# Altium schematic symbol library IEEEBOT_SCHLIB.SchLib: 30 symbols (part 1 of 2)
Pins are listed as number, name and electrical type; pins without a type are passive.

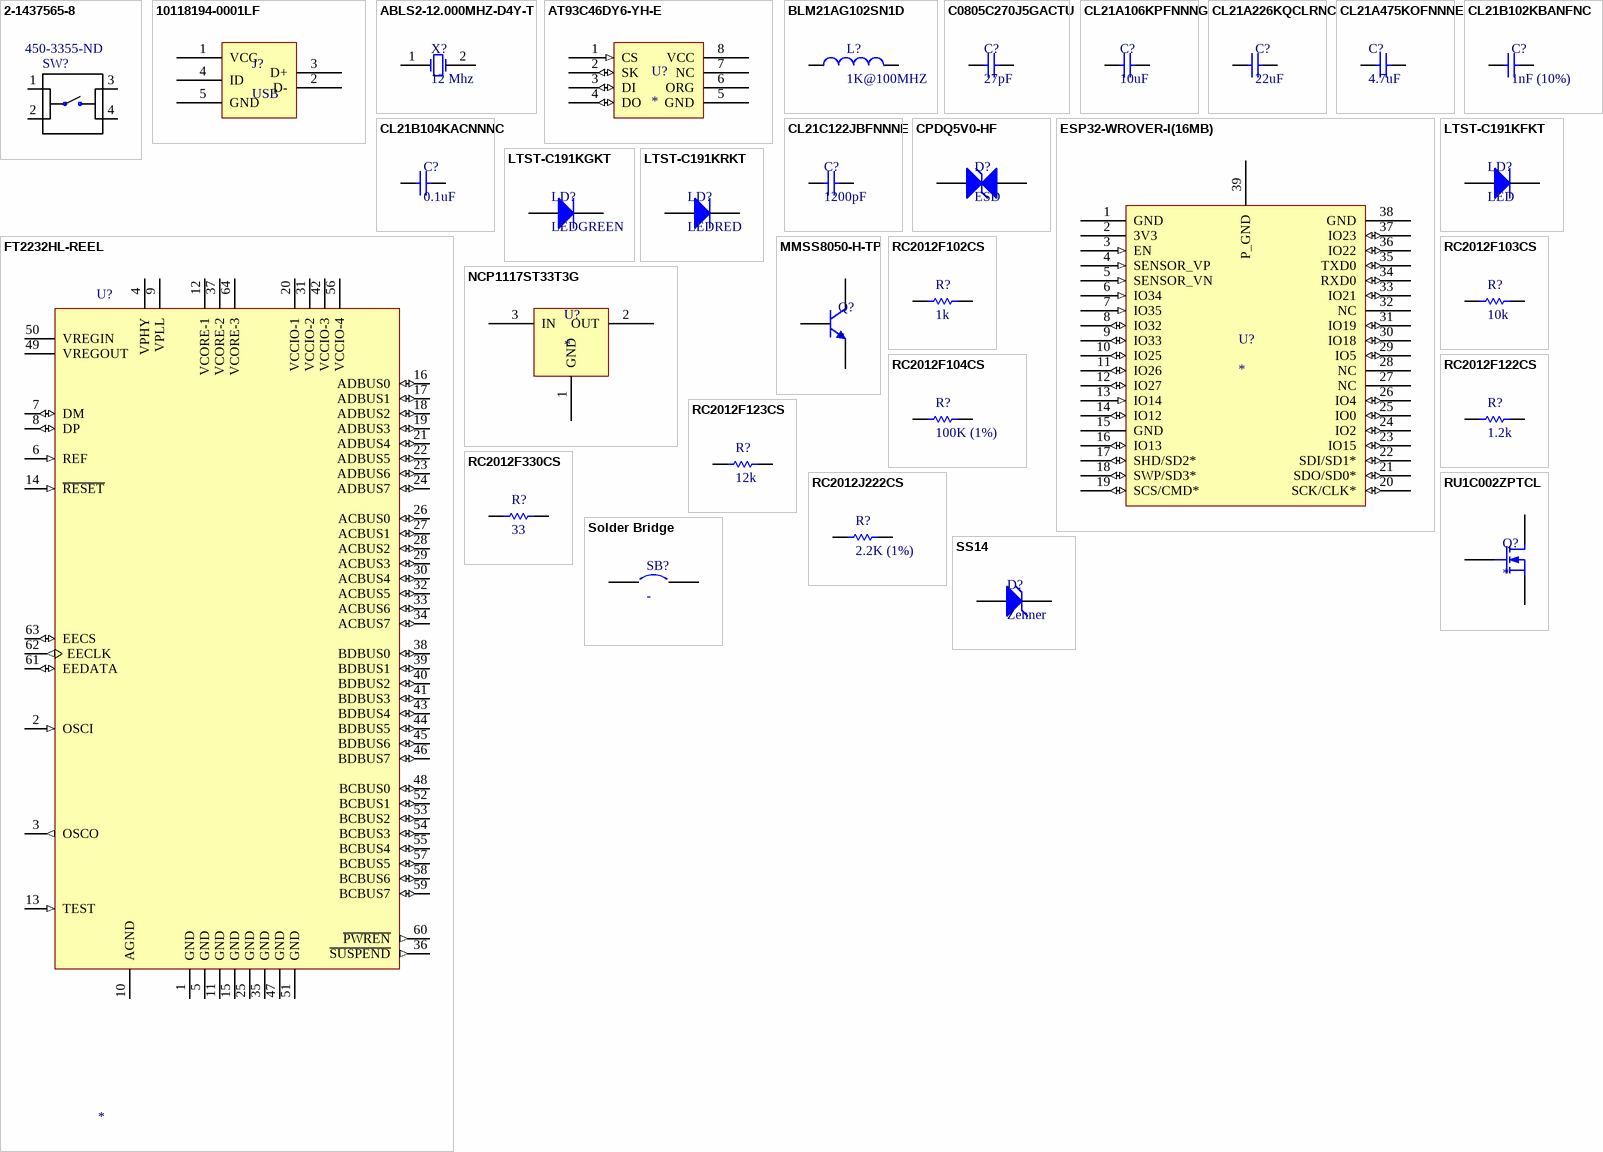
[diagram p0: symbols 2-1437565-8 to SS14]

## 2-1437565-8
designator SW?  Supplier Part Number 1: 450-3355-ND  (hidden comment: 2-1437565-8)
Switch Tactile OFF _ON_ SPST Round Button Gull Wing 0.05A 24VDC 1VA 9.18N SMD Bulk; MF: TE Connectivity; Operating Force: 260gf; Max Current Rating: 50mA; Voltage Rating (DC): 24V; Illumination Type: Non-Illuminated; Connector Type: SMD/SMT; Switch Function: Off-Mom; Actuator Type: Standard; Availability: Unavailable; Price: None; Package: None; TE_purchase_URL: https://www.te.com/usa-en/product-2-1437565-8.html?te_bu=Cor&te_type=disp&te_campaign=seda_glo_cor-seda-global-disp-prtnr-fy19-seda-model-bom-cta_sma-317_1&elqCampaignId=32493; SnapEDA_Link: https://www.snapeda.com/parts/2-1437565-8/TE%20Connectivity/view-part/?ref=snap; MP: 2-1437565-8; Value: *; Supplier 1: Digi-Key; Manufacturer: TE Connectivity; Manufacturer Part Number: 2-1437565-8; Stock 1: 18898; Pricing 1: 1 = 0,20000, 10 = 0,19500, 25 = 0,18840, 50 = 0,18160, 100 = 0,17150, 250 = 0,16140, 500 = 0,15468, 1000 = 0,11769, 5000 = 0,09751 (USD); Mount: Surface Mount; Case/Package: SMD/SMT; Contact Material: Copper Alloy; Contact Plating: Silver; Material: Polyamide; Min Operating Temperature: -20°C; Max Operating Temperature: 85°C; Throw Configuration: SPST; Packaging: Bulk; Current Rating: 50mA; Max Voltage Rating (DC): 24V; Package Quantity: 750; Termination: Gull Wing; Orientation: Straight; Length: 6mm; Height: 4.3mm; Depth: 10mm; Radiation Hardening: No; ComponentLink1URL: https://datasheet.ciiva.com/16995/0900766b80fa5b0a-16995515.pdf?src-supplier=Allied+Electronics; ComponentLink1Description: https://datasheet.ciiva.com/16995/0900766b80fa5b0a-16995515.pdf?src-supplier=Allied+Electronics; ComponentLink2URL: https://datasheet.ciiva.com/8165/eng-cs-1654270-2-0807-8165018.pdf?src-supplier=Avnet; ComponentLink2Description: https://datasheet.ciiva.com/8165/eng-cs-1654270-2-0807-8165018.pdf?src-supplier=Avnet; ComponentLink3URL: https://datasheet.ciiva.com/16535/eng-cs-1654270-2-0807-16535247.pdf?src-supplier=Avnet+Europe; ComponentLink3Description: https://datasheet.ciiva.com/16535/eng-cs-1654270-2-0807-16535247.pdf?src-supplier=Avnet+Europe; ComponentLink4URL: http://datasheet.octopart.com/FSM2JSMAA-Tyco-Electronics-datasheet-11083199.pdf?src-supplier=TE+Connectivity; ComponentLink4Description: http://datasheet.octopart.com/FSM2JSMAA-Tyco-Electronics-datasheet-11083199.pdf?src-supplier=TE+Connectivity; ComponentLink5URL: http://datasheet.octopart.com/FSM2JSMAA-Alcoswitch-datasheet-10294628.pdf?src-supplier=Allied+Electronics; ComponentLink5Description: http://datasheet.octopart.com/FSM2JSMAA-Alcoswitch-datasheet-10294628.pdf?src-supplier=Allied+Electronics; ComponentLink6URL: http://datasheet.octopart.com/FSM2JSMAA-TE-Connectivity-datasheet-62056516.pdf?src-supplier=TE+Connectivity; ComponentLink6Description: http://datasheet.octopart.com/FSM2JSMAA-TE-Connectivity-datasheet-62056516.pdf?src-supplier=TE+Connectivity; ComponentLink7URL: http://sigma.octopart.com/11868940/technical_drawing/Alcoswitch-FSM2JSMAA.pdf?src-supplier=TE+Connectivity; ComponentLink7Description: http://sigma.octopart.com/11868940/technical_drawing/Alcoswitch-FSM2JSMAA.pdf?src-supplier=TE+Connectivity; ComponentLink8URL: http://datasheet.octopart.com/2-1437565-8-Tyco-Electronics-datasheet-160371.pdf?src-supplier=Arrow; ComponentLink8Description: http://datasheet.octopart.com/2-1437565-8-Tyco-Electronics-datasheet-160371.pdf?src-supplier=Arrow
footprint *SW_SMD_2-1437565-8_4_4.50_6.00_6.00_5.00
pins: 1, 2, 3, 4

## 10118194-0001LF
designator J?, comment USB
CONN RCPT USB2.0 MICRO B SMD R/A; Manufacturer: Amphenol FCI; Manufacturer Part Number: 10118194-0001LF; Gender: Receptacle; Current Rating: 1.8A; Number of Contacts: 5; Insulation Resistance: 1GR; Number of Ports: 1; Max Voltage Rating (AC): 100V; Pitch: 0.65mm; Supplier 1: Digi-Key; RoHS: Yes; Stock 1: 136800; Pricing 1: 1200 = 0,208430, 2400 = 0,190560, 6000 = 0,178650, 8400 = 0,166740, 12000 = 0,160790, 30000 = 0,158400, 60000 = 0,154830 (USD); Mount: Surface Mount; Color: Black; Contact Material: Copper Alloy; Contact Plating: Gold; Number of Terminals: 5; Housing Material: Polymer; Min Operating Temperature: -55°C; Max Operating Temperature: 85°C; Package Quantity: 9600; Packaging: Tape and Reel; Connector Type: USB; Termination: Solder; Orientation: Right Angle; Features: Shielded; Length: 8.05mm; Depth: 5mm; Radiation Hardening: No; Lead Free: Lead Free; Flammability Rating: UL94 V-0; ComponentLink1URL: https://datasheet.ciiva.com/4598/10118194ac-197217-4598807.pdf?src-supplier=Mouser; ComponentLink1Description: https://datasheet.ciiva.com/4598/10118194ac-197217-4598807.pdf?src-supplier=Mouser; ComponentLink2URL: https://datasheet.ciiva.com/29907/10118194-29907230.pdf?src-supplier=Avnet; ComponentLink2Description: https://datasheet.ciiva.com/29907/10118194-29907230.pdf?src-supplier=Avnet; ComponentLink3URL: https://datasheet.ciiva.com/26945/getdatasheetpartid-418619-26945695.pdf?src-supplier=Verical; ComponentLink3Description: https://datasheet.ciiva.com/26945/getdatasheetpartid-418619-26945695.pdf?src-supplier=Verical; ComponentLink4URL: https://datasheet.ciiva.com/851/10118194-851110.pdf?src-supplier=Digi-Key; ComponentLink4Description: https://datasheet.ciiva.com/851/10118194-851110.pdf?src-supplier=Digi-Key; ComponentLink5URL: https://datasheet.ciiva.com/851/10118194-851111.pdf?src-supplier=Digi-Key; ComponentLink5Description: https://datasheet.ciiva.com/851/10118194-851111.pdf?src-supplier=Digi-Key; Supplier Part Number 1: 609-4618-2-ND
footprint 10118194-0001LF
pins: 1 VCC, 2 D-, 3 D+, 4 ID, 5 GND

## ABLS2-12.000MHZ-D4Y-T
designator X?, comment 12 Mhz
CRYSTAL 12.0000MHZ 18PF SMD; Manufacturer: Abracon; Manufacturer Part Number: ABLS2-12.000MHZ-D4Y-T; ESR (Equivalent Series Resistance): 50R; Frequency: 12MHz; Tolerance: 30ppm; Supplier 1: Digi-Key; RoHS: Yes; Stock 1: 32280; Pricing 1: 1 = 0,33000, 10 = 0,27500, 50 = 0,24760, 100 = 0,22000, 500 = 0,20900 (USD); Mount: Surface Mount; Number of Pins: 2; Min Operating Temperature: -40°C; Max Operating Temperature: 85°C; Load Capacitance: 18pF; Package Quantity: 1000; Packaging: Tape and Reel; Frequency Tolerance: 30ppm; Frequency Stability: 30ppm; Termination: SMD/SMT; Series Resistance: 50R; Length: 11.4mm; Height: 0.13inch; Width: 4.7mm; Depth: 4.7mm; REACH SVHC: Unknown; Lead Free: Lead Free; ComponentLink1URL: https://datasheet.ciiva.com/15116/getdatasheetpartid-719896-15116779.pdf?src-supplier=Verical; ComponentLink1Description: https://datasheet.ciiva.com/15116/getdatasheetpartid-719896-15116779.pdf?src-supplier=Verical; ComponentLink2URL: https://datasheet.ciiva.com/16208/abls2-16208630.pdf?src-supplier=Future+Electronics; ComponentLink2Description: https://datasheet.ciiva.com/16208/abls2-16208630.pdf?src-supplier=Future+Electronics; ComponentLink3URL: https://datasheet.ciiva.com/854/abls2-854393.pdf?src-supplier=Digi-Key; ComponentLink3Description: https://datasheet.ciiva.com/854/abls2-854393.pdf?src-supplier=Digi-Key; ComponentLink4URL: https://datasheet.ciiva.com/854/abls2-854394.pdf?src-supplier=Digi-Key; ComponentLink4Description: https://datasheet.ciiva.com/854/abls2-854394.pdf?src-supplier=Digi-Key; ComponentLink5URL: https://datasheet.ciiva.com/3175/abls2-3175498.pdf?src-supplier=Avnet; ComponentLink5Description: https://datasheet.ciiva.com/3175/abls2-3175498.pdf?src-supplier=Avnet; ComponentLink6URL: https://datasheet.ciiva.com/854/abls2-854395.pdf?src-supplier=Digi-Key; ComponentLink6Description: https://datasheet.ciiva.com/854/abls2-854395.pdf?src-supplier=Digi-Key; ComponentLink7URL: https://datasheet.ciiva.com/7998/abls2-7998445.pdf?src-supplier=Element14; ComponentLink7Description: https://datasheet.ciiva.com/7998/abls2-7998445.pdf?src-supplier=Element14; Supplier Part Number 1: 535-9869-1-ND
footprint ABLS2-12.000MHZ-D4Y-T
pins: 1 OSC1, 2 OSC2

## AT93C46DY6-YH-E
designator U?
EEPROM Serial-3Wire 1K-bit 128 x 8/64 x 16 2.5V/3.3V/5V Automotive 8-Pin UDFN EP T/R; Manufacturer: Microchip; Manufacturer Part Number: AT93C46DY6-YH-E; Supplier 1: Digikey; Stock 1: 27382; Pricing 1: 1 = 0,23000, 25 = 0,21640, 100 = 0,21190 (USD); Supplier Part Number 1: AT93C46DY6-YH-ECT-ND
pins: 1 CS (in), 2 SK (io), 3 DI (io), 4 DO (io), 5 GND (power), 6 ORG, 7 NC, 8 VCC (power)

## BLM21AG102SN1D
designator L?, comment 1K@100MHZ
MURATA - BLM21AG102SN1D - FERRITE BEAD, 1 KOHM, 500 mA, 0805; Material: Steel; Impedance: 1kR; Tolerance: 25%; Max DC Current: 200mA; DC Resistance (DCR): 280mR; Max Current Rating: 600mA; Current Rating: 500mA; Test Frequency: 100MHz; Number of Lines: 1; Shielding: Unshielded; Supplier 1: Digi-Key; Manufacturer: Murata; Manufacturer Part Number: BLM21AG102SN1D; RoHS: Yes; Stock 1: 2326407; Pricing 1: 1 = 0,17000, 10 = 0,14100, 25 = 0,10960, 50 = 0,09100, 100 = 0,07840, 250 = 0,06272, 500 = 0,05644, 1000 = 0,04703 (USD); Case/Package: 0805; Number of Pins: 2; Weight: 0.000194oz; Core Material: Ferrite; Case Code (Metric): 2012; Case Code (Imperial): 0805; Min Operating Temperature: -55°C; Max Operating Temperature: 125°C; Package Quantity: 1; Packaging: Tape and Reel; Termination: SMD/SMT; DC Current: 200mA; Military Standard: Not; Frequency: 100MHz; Number of Circuits: 1; Length: 2mm; Height: 0.85mm; Depth: 1.25mm; Width: 1.25mm; Radiation Hardening: No; REACH SVHC: No SVHC; Lead Free: Lead Free; ComponentLink1URL: https://datasheet.ciiva.com/19454/1845136-19454717.pdf?src-supplier=Jameco; ComponentLink1Description: https://datasheet.ciiva.com/19454/1845136-19454717.pdf?src-supplier=Jameco; ComponentLink2URL: https://datasheet.ciiva.com/18093/getdatasheetpartid-139643-18093010.pdf?src-supplier=Verical; ComponentLink2Description: https://datasheet.ciiva.com/18093/getdatasheetpartid-139643-18093010.pdf?src-supplier=Verical; ComponentLink3URL: https://datasheet.ciiva.com/41449/001172322-da-01-en-drossel-0805-1000r-2-0x1-25mm-4000st-41449636.pdf?src-supplier=Conrad; ComponentLink3Description: https://datasheet.ciiva.com/41449/001172322-da-01-en-drossel-0805-1000r-2-0x1-25mm-4000st-41449636.pdf?src-supplier=Conrad; ComponentLink4URL: https://datasheet.ciiva.com/29347/442432-da-01-en-chip-drossel-0805-1000r-200ma-2-0x1-25mm-29347996.pdf?src-supplier=Conrad; ComponentLink4Description: https://datasheet.ciiva.com/29347/442432-da-01-en-chip-drossel-0805-1000r-200ma-2-0x1-25mm-29347996.pdf?src-supplier=Conrad; ComponentLink5URL: https://datasheet.ciiva.com/25903/l0110s0100blm21a-25903493.pdf?src-supplier=Avnet+Europe; ComponentLink5Description: https://datasheet.ciiva.com/25903/l0110s0100blm21a-25903493.pdf?src-supplier=Avnet+Europe; ComponentLink6URL: https://datasheet.ciiva.com/3081/l0110s0100blm21a-3081640.pdf?src-supplier=Avnet; ComponentLink6Description: https://datasheet.ciiva.com/3081/l0110s0100blm21a-3081640.pdf?src-supplier=Avnet; ComponentLink7URL: https://datasheet.ciiva.com/3082/l0110s0100blm21a-3082728.pdf?src-supplier=Avnet; ComponentLink7Description: https://datasheet.ciiva.com/3082/l0110s0100blm21a-3082728.pdf?src-supplier=Avnet; ComponentLink8URL: https://datasheet.ciiva.com/6212/l0110s0100blm21a-6212345.pdf?src-supplier=Digi-Key; ComponentLink8Description: https://datasheet.ciiva.com/6212/l0110s0100blm21a-6212345.pdf?src-supplier=Digi-Key; ComponentLink9URL: https://datasheet.ciiva.com/6212/l0110s0100blm21a-6212347.pdf?src-supplier=Digi-Key; ComponentLink9Description: https://datasheet.ciiva.com/6212/l0110s0100blm21a-6212347.pdf?src-supplier=Digi-Key; ComponentLink10URL: https://datasheet.ciiva.com/8021/l0110s0100blm21a-8021548.pdf?src-supplier=Element14; ComponentLink10Description: https://datasheet.ciiva.com/8021/l0110s0100blm21a-8021548.pdf?src-supplier=Element14; ComponentLink11URL: https://datasheet.ciiva.com/16286/l0110s0100blm21a-16286461.pdf?src-supplier=Future+Electronics; ComponentLink11Description: https://datasheet.ciiva.com/16286/l0110s0100blm21a-16286461.pdf?src-supplier=Future+Electronics; ComponentLink12URL: https://datasheet.ciiva.com/6212/l0110s0100blm21a-6212318.pdf?src-supplier=Digi-Key; ComponentLink12Description: https://datasheet.ciiva.com/6212/l0110s0100blm21a-6212318.pdf?src-supplier=Digi-Key; ComponentLink13URL: https://datasheet.ciiva.com/8021/l0110s0100blm21a-8021550.pdf?src-supplier=Element14; ComponentLink13Description: https://datasheet.ciiva.com/8021/l0110s0100blm21a-8021550.pdf?src-supplier=Element14; Supplier Part Number 1: 490-1041-1-ND; ComponentLink14URL: http://www.farnell.com/datasheets/2609223.pdf?src-supplier=Farnell; ComponentLink14Description: http://www.farnell.com/datasheets/2609223.pdf?src-supplier=Farnell; ComponentLink15URL: https://www.te.com/commerce/DocumentDelivery/DDEController?Action=srchrtrv&DocNm=1773204-3&DocType=DS&DocLang=English&src-supplier=Digi-Key; ComponentLink15Description: https://www.te.com/commerce/DocumentDelivery/DDEController?Action=srchrtrv&DocNm=1773204-3&DocType=DS&DocLang=English&src-supplier=Digi-Key
pins: 1, 2

## C0805C270J5GACTU
designator C?, comment 27pF
Cap Ceramic 27pF 50V C0G 5% Pad SMD 0805 125C T/R; Manufacturer: KEMET; Manufacturer Part Number: C0805C270J5GACTU; Temperature Coefficient: 30ppm/°C; Dissipation Factor: 0.1%; Supplier 1: Digi-Key; RoHS: Yes; Stock 1: 57011; Pricing 1: 1 = 0,13000, 10 = 0,09600, 100 = 0,04260, 500 = 0,03046, 1000 = 0,02393 (USD); Mount: Surface Mount; Case/Package: 0805; Dielectric Material: Ceramic; Case Code (Metric): 2012; Case Code (Imperial): 0805; Contact Material: Tin; Contact Plating: Tin; Min Operating Temperature: -55°C; Max Operating Temperature: 125°C; Packaging: Tape and Reel; Capacitance: 27pF; Tolerance: 5%; Voltage Rating (DC): 50V; Dielectric: C0G; Termination: SMD/SMT; Voltage: 50V; Package Quantity: 1; Voltage Rating: 50V; Length: 2mm; Height: 0.78mm; Depth: 1.25mm; Width: 0.049inch; Thickness: 0.035inch; Lead Pitch: 0.75mm; Radiation Hardening: No; Lead Free: Lead Free; REACH SVHC: No SVHC; ComponentLink1URL: https://datasheet.ciiva.com/6136/1776096-6136764.pdf?src-supplier=Farnell; ComponentLink1Description: https://datasheet.ciiva.com/6136/1776096-6136764.pdf?src-supplier=Farnell; ComponentLink2URL: https://datasheet.ciiva.com/5411/kem-c1003-c0g-smd-356956-5411093.pdf?src-supplier=Mouser; ComponentLink2Description: https://datasheet.ciiva.com/5411/kem-c1003-c0g-smd-356956-5411093.pdf?src-supplier=Mouser; ComponentLink3URL: https://datasheet.ciiva.com/11463/kem-c1003-c0g-smd-11463574.pdf?src-supplier=Avnet; ComponentLink3Description: https://datasheet.ciiva.com/11463/kem-c1003-c0g-smd-11463574.pdf?src-supplier=Avnet; ComponentLink4URL: https://datasheet.ciiva.com/14589/70095383-14589446.pdf?src-supplier=Allied+Electronics; ComponentLink4Description: https://datasheet.ciiva.com/14589/70095383-14589446.pdf?src-supplier=Allied+Electronics; ComponentLink5URL: https://datasheet.ciiva.com/7842/f9080b-0402-series-c0g-7842586.pdf?src-supplier=Element14; ComponentLink5Description: https://datasheet.ciiva.com/7842/f9080b-0402-series-c0g-7842586.pdf?src-supplier=Element14; ComponentLink6URL: https://datasheet.ciiva.com/28696/1789732-28696026.pdf?src-supplier=Element14; ComponentLink6Description: https://datasheet.ciiva.com/28696/1789732-28696026.pdf?src-supplier=Element14; ComponentLink7URL: https://datasheet.ciiva.com/14608/70095383-14608091.pdf?src-supplier=Allied+Electronics; ComponentLink7Description: https://datasheet.ciiva.com/14608/70095383-14608091.pdf?src-supplier=Allied+Electronics; ComponentLink8URL: https://datasheet.ciiva.com/7842/1776096-7842300.pdf?src-supplier=Element14; ComponentLink8Description: https://datasheet.ciiva.com/7842/1776096-7842300.pdf?src-supplier=Element14; ComponentLink9URL: https://datasheet.ciiva.com/7842/1776096-7842301.pdf?src-supplier=Element14; ComponentLink9Description: https://datasheet.ciiva.com/7842/1776096-7842301.pdf?src-supplier=Element14; Supplier Part Number 1: 399-1114-1-ND
pins: 1, 2

## CL21A106KPFNNNG
designator C?, comment 10uF
Cap Ceramic 10uF 10V X5R 10% SMD 0805 85C Embossed T/R; Manufacturer: Samsung; Manufacturer Part Number: CL21A106KPFNNNG; Supplier 1: Digi-Key; RoHS: Yes; Stock 1: 918320; Pricing 1: 1 = 0,14000, 10 = 0,10000, 100 = 0,04690, 500 = 0,03290, 1000 = 0,02724 (USD); Mount: Surface Mount; Case/Package: 0805; Case Code (Metric): 2012; Case Code (Imperial): 0805; Min Operating Temperature: -55°C; Max Operating Temperature: 85°C; Capacitance: 10uF; Tolerance: 10%; Dielectric: X5R; Voltage: 10V; Voltage Rating: 10V; Packaging: Tape and Reel; Package Quantity: 3000; Termination: Wraparound; Length: 2mm; Height: 1.25mm; Depth: 1.25mm; Width: 0.049inch; Thickness: 0.053inch; Radiation Hardening: No; Lead Free: Lead Free; ComponentLink1URL: https://datasheet.ciiva.com/16428/cl21a106kpfnnng-16428896.pdf?src-supplier=Future+Electronics; ComponentLink1Description: https://datasheet.ciiva.com/16428/cl21a106kpfnnng-16428896.pdf?src-supplier=Future+Electronics; ComponentLink2URL: https://datasheet.ciiva.com/26936/getdatasheetpartid-640497-26936900.pdf?src-supplier=Verical; ComponentLink2Description: https://datasheet.ciiva.com/26936/getdatasheetpartid-640497-26936900.pdf?src-supplier=Verical; Supplier Part Number 1: 1276-6456-1-ND
pins: 1, 2

## CL21A226KQCLRNC
designator C?, comment 22uF
CAP CER 22UF 6.3V X5R 0805; Manufacturer: Samsung; Manufacturer Part Number: CL21A226KQCLRNC; Tolerance: 10%; Supplier 1: Digi-Key; Stock 1: 975518; RoHS: Yes; Mount: Surface Mount; Case/Package: 0805; Case Code (Metric): 2012; Case Code (Imperial): 0805; Min Operating Temperature: -55°C; Max Operating Temperature: 85°C; Packaging: Tape and Reel; Capacitance: 22uF; Voltage Rating: 6.3V; Length: 0.079inch; Width: 0.049inch; Thickness: 0.037inch; ComponentLink1URL: http://www.samsungsem.com/kr/support/product-search/mlcc/CL21A226KQCLRNC.jsp?src-supplier=Digi-Key; ComponentLink1Description: http://www.samsungsem.com/kr/support/product-search/mlcc/CL21A226KQCLRNC.jsp?src-supplier=Digi-Key; Supplier Part Number 1: 1276-6687-1-ND
pins: 1, 2

## CL21A475KOFNNNE
designator C?, comment 4.7uF
Cap Ceramic 4.7uF 16V X5R 10% SMD 0805 85C Embossed T/R; Manufacturer: Samsung; Manufacturer Part Number: CL21A475KOFNNNE; Supplier 1: Digi-Key; RoHS: Yes; Stock 1: 1779241; Pricing 1: 1 = 0,17000, 10 = 0,11600, 100 = 0,05860, 500 = 0,04010, 1000 = 0,03547 (USD); Mount: Surface Mount; Case/Package: 0805; Case Code (Metric): 2012; Case Code (Imperial): 0805; Contact Plating: Tin; Min Operating Temperature: -55°C; Max Operating Temperature: 85°C; Tolerance: 10%; Capacitance: 4.7uF; Dielectric: X5R; Packaging: Tape and Reel; Voltage Rating: 16V; Length: 2mm; Height: 1.25mm; Width: 0.049inch; Thickness: 0.053inch; Depth: 1.25mm; Radiation Hardening: No; ComponentLink1URL: https://datasheet.ciiva.com/26838/getdatasheetpartid-357424-26838625.pdf?src-supplier=Verical; ComponentLink1Description: https://datasheet.ciiva.com/26838/getdatasheetpartid-357424-26838625.pdf?src-supplier=Verical; ComponentLink2URL: https://datasheet.ciiva.com/25710/cl21a475kofnnne-25710354.pdf?src-supplier=Digi-Key; ComponentLink2Description: https://datasheet.ciiva.com/25710/cl21a475kofnnne-25710354.pdf?src-supplier=Digi-Key; ComponentLink3URL: https://datasheet.ciiva.com/16740/cl21a475kofnnne-16740646.pdf?src-supplier=Future+Electronics; ComponentLink3Description: https://datasheet.ciiva.com/16740/cl21a475kofnnne-16740646.pdf?src-supplier=Future+Electronics; Supplier Part Number 1: 1276-1065-1-ND
pins: 1, 2

## CL21B102KBANFNC
designator C?, comment 1nF (10%)
Cap Ceramic 0.001uF 50V X7R 10% SMD 0805 125°C Paper T/R; Manufacturer: Samsung; Manufacturer Part Number: CL21B102KBANFNC; Supplier 1: Digi-Key; Stock 1: 199889; Pricing 1: 1 = 0,10000, 10 = 0,05000, 100 = 0,02210, 500 = 0,01576, 1000 = 0,01238 (USD); Mount: Surface Mount; Case/Package: 0805; Case Code (Metric): 2012; Case Code (Imperial): 0805; Contact Plating: Tin; Min Operating Temperature: -55°C; Max Operating Temperature: 125°C; Capacitance: 1nF; Tolerance: 10%; Package Quantity: 1; Packaging: Tape and Reel; Voltage Rating: 50V; Dielectric: X7R; Length: 0.079inch; Height: 0.65mm; Width: 0.049inch; Thickness: 0.03inch; Depth: 1.25mm; Radiation Hardening: No; ComponentLink1URL: https://datasheet.ciiva.com/25780/cl21b102kbanfnc-25780808.pdf?src-supplier=Digi-Key; ComponentLink1Description: https://datasheet.ciiva.com/25780/cl21b102kbanfnc-25780808.pdf?src-supplier=Digi-Key; Supplier Part Number 1: 1276-2424-1-ND
pins: 1, 2

## CL21B104KACNNNC
designator C?, comment 0.1uF
Cap Ceramic 0.1uF 25V X7R 10% SMD 0805 125C Paper T/R; Manufacturer: Samsung; Manufacturer Part Number: CL21B104KACNNNC; Capacitance: 100nF; Supplier 1: Digi-Key; Stock 1: 319136; RoHS: Yes; Mount: Surface Mount; Case/Package: 0805; Contact Plating: Tin; Case Code (Metric): 2012; Case Code (Imperial): 0805; Min Operating Temperature: -55°C; Max Operating Temperature: 125°C; Package Quantity: 1; Packaging: Tape and Reel; Voltage Rating: 25V; Tolerance: 10%; Dielectric: X7R; Voltage: 25V; Length: 2mm; Height: 0.85mm; Width: 0.049inch; Thickness: 0.037inch; Depth: 1.25mm; Radiation Hardening: No; ComponentLink1URL: https://datasheet.ciiva.com/25801/cl21b104kacnnnc-25801824.pdf?src-supplier=Digi-Key; ComponentLink1Description: https://datasheet.ciiva.com/25801/cl21b104kacnnnc-25801824.pdf?src-supplier=Digi-Key; ComponentLink2URL: https://datasheet.ciiva.com/15216/getdatasheetpartid-355204-15216236.pdf?src-supplier=Verical; ComponentLink2Description: https://datasheet.ciiva.com/15216/getdatasheetpartid-355204-15216236.pdf?src-supplier=Verical; Supplier Part Number 1: 1276-1099-1-ND
pins: 1, 2

## CL21C122JBFNNNE
designator C?, comment 1200pF
CAP CER 1200PF 50V C0G/NP0 0805; Manufacturer: Samsung; Manufacturer Part Number: CL21C122JBFNNNE; Capacitance: 1.2nF; Tolerance: 5%; Supplier 1: Digi-Key; RoHS: Yes; Stock 1: 528437; Pricing 1: 1 = 0,12000, 10 = 0,08800, 100 = 0,04130, 500 = 0,02898, 1000 = 0,02399 (USD); Mount: Surface Mount; Case/Package: 0805; Case Code (Metric): 2012; Case Code (Imperial): 0805; Min Operating Temperature: -55°C; Max Operating Temperature: 125°C; Package Quantity: 1; Packaging: Cut Tape; Voltage Rating: 50V; Voltage Rating (DC): 50V; Length: 0.079inch; Width: 0.049inch; Thickness: 0.053inch; Lead Free: Lead Free; ComponentLink1URL: https://datasheet.ciiva.com/25731/cl21c122jbfnnne-25731890.pdf?src-supplier=Digi-Key; ComponentLink1Description: https://datasheet.ciiva.com/25731/cl21c122jbfnnne-25731890.pdf?src-supplier=Digi-Key; Supplier Part Number 1: 1276-2986-1-ND
pins: 1, 2

## CPDQ5V0-HF
designator D?, comment ESD
TVS DIODE 5V 18.6V 0402/SOD923F; Manufacturer: Comchip; Manufacturer Part Number: CPDQ5V0-HF; Min Breakdown Voltage: 5.6V; Peak Pulse Power: 174W; Power Line Protection: No; Peak Pulse Current: 9.4A; Capacitance: 15pF; Number of Bidirectional Channels: 1; Supplier 1: Digi-Key; RoHS: Yes; Stock 1: 208826; Pricing 1: 1 = 0,30000, 10 = 0,27600, 25 = 0,19840, 100 = 0,15440, 250 = 0,09704, 500 = 0,08268, 1000 = 0,05623, 2500 = 0,05072 (USD); Mount: Surface Mount; Case/Package: 0402; Min Operating Temperature: -40°C; Max Operating Temperature: 125°C; Packaging: Tape and Reel; Package Quantity: 8000; Reverse Standoff Voltage: 5V; Clamping Voltage: 18.6V; Breakdown Voltage: 5.6V; Composition: Zener; Operating Supply Voltage: 5V; ComponentLink1URL: https://datasheet.ciiva.com/6577/cpdq5v0-hf20reva825126-6577872.pdf?src-supplier=Digi-Key; ComponentLink1Description: https://datasheet.ciiva.com/6577/cpdq5v0-hf20reva825126-6577872.pdf?src-supplier=Digi-Key; ComponentLink2URL: https://datasheet.ciiva.com/12545/cpdq5v0-hf20reva825126-218795-12545530.pdf?src-supplier=Mouser; ComponentLink2Description: https://datasheet.ciiva.com/12545/cpdq5v0-hf20reva825126-218795-12545530.pdf?src-supplier=Mouser; Supplier Part Number 1: 641-1478-1-ND
pins: 1 A, 2 K

## ESP32-WROVER-I(16MB)
designator U?
WIFI MODULE 128MBITS SPI FLASH; Manufacturer: Espressif Systems; Manufacturer Part Number: ESP32-WROVER-I(16MB); Revised: False; Supplier 1: Digi-Key; Stock 1: 5577; RoHS: No; ComponentLink1URL: https://www.espressif.com/sites/default/files/documentation/esp32-wrover_datasheet_en.pdf?src-supplier=Digi-Key; ComponentLink1Description: https://www.espressif.com/sites/default/files/documentation/esp32-wrover_datasheet_en.pdf?src-supplier=Digi-Key; ComponentLink2URL: https://www.espressif.com/sites/default/files/documentation/esp32_datasheet_en.pdf?src-supplier=Digi-Key; ComponentLink2Description: https://www.espressif.com/sites/default/files/documentation/esp32_datasheet_en.pdf?src-supplier=Digi-Key; Supplier Part Number 1: 1904-1017-1-ND
pins: 1 GND (power), 2 3V3 (power), 3 EN (in), 4 SENSOR_VP (in), 5 SENSOR_VN (in), 6 IO34 (in), 7 IO35 (in), 8 IO32 (io), 9 IO33 (io), 10 IO25 (io), 11 IO26 (io), 12 IO27 (io), 13 IO14 (in), 14 IO12 (io), 15 GND (power), 16 IO13 (io), 17 SHD/SD2* (io), 18 SWP/SD3* (io), 19 SCS/CMD* (io), 20 SCK/CLK* (io), 21 SDO/SD0* (io), 22 SDI/SD1* (io), 23 IO15 (io), 24 IO2 (io), 25 IO0 (io), 26 IO4 (io), 27 NC, 28 NC, 29 IO5 (io), 30 IO18 (io), 31 IO19 (io), 32 NC, 33 IO21 (io), 34 RXD0 (io), 35 TXD0 (io), 36 IO22 (io), 37 IO23 (io), 38 GND (power), 39 P_GND (power) "Ground Pad"

## FT2232HL-REEL
designator U?
Dual High Speed USB UART/FIFO IC LQFP64; Manufacturer Part Number: FT2232HL-REEL; MP: FT2232HL; MF: FTDI; Data Rate: 480Mbps; Max Supply Voltage: 3.63V; Min Supply Voltage: 1.62V; Number of Channels: 2; Operating Supply Voltage: 3.3V; Operating Supply Current: 70mA; Number of Transceivers: 4; ESD Protection: Yes; Package: LQFP-64 FTDI; SnapEDA_Link: https://www.snapeda.com/parts/FT2232HL/FTDI/view-part/?ref=snap; Availability: Unavailable; Price: None; Value: *; Supplier 1: Digi-Key; Manufacturer: FTDI; RoHS: Yes; Stock 1: 34676; Pricing 1: 1 = 6,71000, 10 = 6,20000, 50 = 5,77000, 100 = 5,40000, 250 = 4,56000, 500 = 4,06002 (USD); Mount: Surface Mount; Case/Package: LQFP; Number of Pins: 64; Weight: 0.012088oz; Min Operating Temperature: -40°C; Max Operating Temperature: 85°C; Packaging: Tape and Reel; Package Quantity: 1000; Dual Supply Voltage: 3.3V; Features: I²C; Length: 10.1mm; Height: 1.4mm; Width: 10.1mm; Radiation Hardening: No; Lead Free: Lead Free; ComponentLink1URL: https://datasheet.ciiva.com/26841/ft2232hl-reel-26841742.pdf?src-supplier=IIIC; ComponentLink1Description: https://datasheet.ciiva.com/26841/ft2232hl-reel-26841742.pdf?src-supplier=IIIC; ComponentLink2URL: https://datasheet.ciiva.com/1787/ds-ft2232h-1787542.pdf?src-supplier=Digi-Key; ComponentLink2Description: https://datasheet.ciiva.com/1787/ds-ft2232h-1787542.pdf?src-supplier=Digi-Key; ComponentLink3URL: https://datasheet.ciiva.com/1787/ds-ft2232h-1787543.pdf?src-supplier=Digi-Key; ComponentLink3Description: https://datasheet.ciiva.com/1787/ds-ft2232h-1787543.pdf?src-supplier=Digi-Key; ComponentLink4URL: https://datasheet.ciiva.com/1787/ds-ft2232h-1787544.pdf?src-supplier=Digi-Key; ComponentLink4Description: https://datasheet.ciiva.com/1787/ds-ft2232h-1787544.pdf?src-supplier=Digi-Key; ComponentLink5URL: https://datasheet.ciiva.com/15224/getdatasheetpartid-644710-15224922.pdf?src-supplier=Verical; ComponentLink5Description: https://datasheet.ciiva.com/15224/getdatasheetpartid-644710-15224922.pdf?src-supplier=Verical; ComponentLink6URL: https://datasheet.ciiva.com/4787/ds-ft2232h-17353-4787707.pdf?src-supplier=Mouser; ComponentLink6Description: https://datasheet.ciiva.com/4787/ds-ft2232h-17353-4787707.pdf?src-supplier=Mouser; Supplier Part Number 1: 768-1024-1-ND
footprint *QFP50P1200X1200X160-64N
pins: 1 GND (power), 2 OSCI (in), 3 OSCO (out), 4 VPHY (power), 5 GND (power), 6 REF (in), 7 DM (io), 8 DP (io), 9 VPLL (power), 10 AGND (power), 11 GND (power), 12 VCORE-1 (power), 13 TEST (in), 14 ~{RESET} (in), 15 GND (power), 16 ADBUS0 (io), 17 ADBUS1 (io), 18 ADBUS2 (io), 19 ADBUS3 (io), 20 VCCIO-1 (power), 21 ADBUS4 (io), 22 ADBUS5 (io), 23 ADBUS6 (io), 24 ADBUS7 (io), 25 GND (power), 26 ACBUS0 (io), 27 ACBUS1 (io), 28 ACBUS2 (io), 29 ACBUS3 (io), 30 ACBUS4 (io), 31 VCCIO-2 (power), 32 ACBUS5 (io), 33 ACBUS6 (io), 34 ACBUS7 (io), 35 GND (power), 36 ~{SUSPEND} (out), 37 VCORE-2 (power), 38 BDBUS0 (io), 39 BDBUS1 (io), 40 BDBUS2 (io), 41 BDBUS3 (io), 42 VCCIO-3 (power), 43 BDBUS4 (io), 44 BDBUS5 (io), 45 BDBUS6 (io), 46 BDBUS7 (io), 47 GND (power), 48 BCBUS0 (io), 49 VREGOUT (power), 50 VREGIN (power), 51 GND (power), 52 BCBUS1 (io), 53 BCBUS2 (io), 54 BCBUS3 (io), 55 BCBUS4 (io), 56 VCCIO-4 (power), 57 BCBUS5 (io), 58 BCBUS6 (io), 59 BCBUS7 (io), 60 ~{PWREN} (out), 61 EEDATA (io), 62 EECLK (out), 63 EECS (io), 64 VCORE-3 (power)

## LTST-C191KFKT
designator LD?, comment LED
LED ORANGE CLEAR SMD; Manufacturer: Vishay Lite-On; Manufacturer Part Number: LTST-C191KFKT; Lens Color: Colorless; Viewing Angle: 130°; Lens Style: Diffused; Luminous Intensity: 90mcd; Forward Current: 30mA; Forward Voltage: 2V; Test Current: 20mA; Number of Elements: 1; Power Dissipation: 75mW; Reverse Voltage: 5V; Dominant Wavelength: 605nm; Wavelength: 611nm; Supplier 1: Digi-Key; RoHS: Yes; Stock 1: 129346; Pricing 1: 1 = 0,27000, 10 = 0,19600, 25 = 0,14480, 100 = 0,10340, 250 = 0,07032, 500 = 0,06204, 1000 = 0,04860, 2500 = 0,04756 (USD); Mount: Surface Mount; Case/Package: 0603; Number of Pins: 2; Color: Orange; Case Code (Metric): 1608; Case Code (Imperial): 0603; Min Operating Temperature: -55°C; Max Operating Temperature: 85°C; Package Quantity: 1; Packaging: Tape and Reel; Illumination Color: Orange; Lens Transparency: Clear; Number of LEDs: 1; Power Rating: 75mW; Length: 1.6mm; Height: 0.55mm; Depth: 0.8mm; Width: 0.8mm; Radiation Hardening: No; Lead Free: Lead Free; ComponentLink1URL: https://datasheet.ciiva.com/2109/ltst-c191kfkt-2109968.pdf?src-supplier=Digi-Key; ComponentLink1Description: https://datasheet.ciiva.com/2109/ltst-c191kfkt-2109968.pdf?src-supplier=Digi-Key; ComponentLink2URL: https://datasheet.ciiva.com/12400/100-ltst-c191kfkt-39904-12400811.pdf?src-supplier=Mouser; ComponentLink2Description: https://datasheet.ciiva.com/12400/100-ltst-c191kfkt-39904-12400811.pdf?src-supplier=Mouser; ComponentLink3URL: https://datasheet.ciiva.com/11775/0900766b80dc02b0-11775613.pdf?src-supplier=RSComponents; ComponentLink3Description: https://datasheet.ciiva.com/11775/0900766b80dc02b0-11775613.pdf?src-supplier=RSComponents; ComponentLink4URL: https://datasheet.ciiva.com/15201/getdatasheetpartid-631075-15201391.pdf?src-supplier=Verical; ComponentLink4Description: https://datasheet.ciiva.com/15201/getdatasheetpartid-631075-15201391.pdf?src-supplier=Verical; ComponentLink5URL: https://datasheet.ciiva.com/2109/s-110-ltst-c191kfkt-2109969.pdf?src-supplier=Digi-Key; ComponentLink5Description: https://datasheet.ciiva.com/2109/s-110-ltst-c191kfkt-2109969.pdf?src-supplier=Digi-Key; Supplier Part Number 1: 160-1445-1-ND
pins: 1 A, 2 K

## LTST-C191KGKT
designator LD?, comment LEDGREEN
LED GREEN CLEAR SMD; Manufacturer: Vishay Lite-On; Manufacturer Part Number: LTST-C191KGKT; Lens Color: Colorless; Luminous Intensity: 35mcd; Viewing Angle: 130°; Forward Voltage: 2V; Dominant Wavelength: 571nm; Test Current: 20mA; Wavelength: 574nm; Lens Style: Diffused; Forward Current: 30mA; Number of Elements: 1; Power Dissipation: 75mW; Reverse Voltage: 5V; Supplier 1: Digi-Key; RoHS: Yes; Stock 1: 1365000; Pricing 1: 5000 = 0,040400, 10000 = 0,036360, 25000 = 0,032320, 50000 = 0,029290, 125000 = 0,027270 (USD); Mount: Surface Mount; Case/Package: 0603; Number of Pins: 2; Color: Green; Case Code (Metric): 1608; Case Code (Imperial): 0603; Min Operating Temperature: -55°C; Max Operating Temperature: 85°C; Packaging: Tape and Reel; Package Quantity: 1; Lens Transparency: Clear; Illumination Color: Green; Number of LEDs: 1; Power Rating: 75mW; Length: 1.6mm; Height: 0.55mm; Width: 0.8mm; Depth: 0.8mm; Radiation Hardening: No; Lead Free: Lead Free; ComponentLink1URL: https://datasheet.ciiva.com/11773/0900766b80dc02b1-11773629.pdf?src-supplier=RSComponents; ComponentLink1Description: https://datasheet.ciiva.com/11773/0900766b80dc02b1-11773629.pdf?src-supplier=RSComponents; ComponentLink2URL: https://datasheet.ciiva.com/12400/100-ltst-c191kgkt-53586-12400818.pdf?src-supplier=Mouser; ComponentLink2Description: https://datasheet.ciiva.com/12400/100-ltst-c191kgkt-53586-12400818.pdf?src-supplier=Mouser; ComponentLink3URL: https://datasheet.ciiva.com/16215/ltst-c191kgkt-16215151.pdf?src-supplier=Future+Electronics; ComponentLink3Description: https://datasheet.ciiva.com/16215/ltst-c191kgkt-16215151.pdf?src-supplier=Future+Electronics; ComponentLink4URL: https://datasheet.ciiva.com/2109/s-110-ltst-c191kgkt-2109973.pdf?src-supplier=Digi-Key; ComponentLink4Description: https://datasheet.ciiva.com/2109/s-110-ltst-c191kgkt-2109973.pdf?src-supplier=Digi-Key; ComponentLink5URL: https://datasheet.ciiva.com/2109/s-110-ltst-c191kgkt-2109974.pdf?src-supplier=Digi-Key; ComponentLink5Description: https://datasheet.ciiva.com/2109/s-110-ltst-c191kgkt-2109974.pdf?src-supplier=Digi-Key; ComponentLink6URL: https://datasheet.ciiva.com/2109/s-110-ltst-c191kgkt-2109975.pdf?src-supplier=Digi-Key; ComponentLink6Description: https://datasheet.ciiva.com/2109/s-110-ltst-c191kgkt-2109975.pdf?src-supplier=Digi-Key; ComponentLink7URL: https://datasheet.ciiva.com/15223/getdatasheetpartid-103913-15223276.pdf?src-supplier=Verical; ComponentLink7Description: https://datasheet.ciiva.com/15223/getdatasheetpartid-103913-15223276.pdf?src-supplier=Verical; Supplier Part Number 1: 160-1446-2-ND
pins: 1 A, 2 K

## LTST-C191KRKT
designator LD?, comment LEDRED
LED RED CLEAR SMD; Manufacturer: Vishay Lite-On; Manufacturer Part Number: LTST-C191KRKT; Lens Color: Colorless; Luminous Intensity: 54mcd; Viewing Angle: 130°; Forward Voltage: 2V; Dominant Wavelength: 631nm; Test Current: 20mA; Wavelength: 639nm; Forward Current: 30mA; Number of Elements: 1; Power Dissipation: 75mW; Reverse Voltage: 5V; Current: 2A; Supplier 1: Digi-Key; RoHS: Yes; Stock 1: 1090000; Pricing 1: 5000 = 0,04040, 10000 = 0,03636, 25000 = 0,03232, 50000 = 0,02929, 125000 = 0,02727 (USD); Mount: Surface Mount; Case/Package: 0603; Number of Pins: 2; Color: Red; Case Code (Metric): 1608; Case Code (Imperial): 0603; Min Operating Temperature: -55°C; Max Operating Temperature: 85°C; Packaging: Tape and Reel; Package Quantity: 1; Lens Transparency: Clear; Lens Style: Clear; Illumination Color: Red; Number of LEDs: 1; Power Rating: 75mW; Voltage: 2V; Length: 1.6mm; Height: 0.55mm; Width: 0.8mm; Depth: 0.8mm; Radiation Hardening: No; Lead Free: Lead Free; ComponentLink1URL: https://datasheet.ciiva.com/15117/getdatasheetpartid-141922-15117737.pdf?src-supplier=Verical; ComponentLink1Description: https://datasheet.ciiva.com/15117/getdatasheetpartid-141922-15117737.pdf?src-supplier=Verical; ComponentLink2URL: https://datasheet.ciiva.com/12400/lite-on-ltst-c191krkt-190135-12400910.pdf?src-supplier=Mouser; ComponentLink2Description: https://datasheet.ciiva.com/12400/lite-on-ltst-c191krkt-190135-12400910.pdf?src-supplier=Mouser; ComponentLink3URL: https://datasheet.ciiva.com/11773/0900766b80dc02b2-11773601.pdf?src-supplier=RSComponents; ComponentLink3Description: https://datasheet.ciiva.com/11773/0900766b80dc02b2-11773601.pdf?src-supplier=RSComponents; ComponentLink4URL: https://datasheet.ciiva.com/16212/ltst-c191krkt-16212419.pdf?src-supplier=Future+Electronics; ComponentLink4Description: https://datasheet.ciiva.com/16212/ltst-c191krkt-16212419.pdf?src-supplier=Future+Electronics; ComponentLink5URL: https://datasheet.ciiva.com/2109/s-110-ltst-c191krkt-2109972.pdf?src-supplier=Digi-Key; ComponentLink5Description: https://datasheet.ciiva.com/2109/s-110-ltst-c191krkt-2109972.pdf?src-supplier=Digi-Key; ComponentLink6URL: https://datasheet.ciiva.com/2109/s-110-ltst-c191krkt-2109970.pdf?src-supplier=Digi-Key; ComponentLink6Description: https://datasheet.ciiva.com/2109/s-110-ltst-c191krkt-2109970.pdf?src-supplier=Digi-Key; ComponentLink7URL: https://datasheet.ciiva.com/2109/s-110-ltst-c191krkt-2109971.pdf?src-supplier=Digi-Key; ComponentLink7Description: https://datasheet.ciiva.com/2109/s-110-ltst-c191krkt-2109971.pdf?src-supplier=Digi-Key; Supplier Part Number 1: 160-1447-2-ND
pins: 1 A, 2 K

## MMSS8050-H-TP
designator Q?
MMSS8050-H Series 25 V 1.5 A NPN Silicon Plastic-Encapsulate Transistor-SOT-23; Manufacturer: MCC; Manufacturer Part Number: MMSS8050-H-TP; hFE Min: 120; Max Power Dissipation: 625mW; Collector Emitter Voltage (VCEO): 500mV; Collector Base Voltage (VCBO): 40V; Emitter Base Voltage (VEBO): 5V; Max Collector Current: 1.5A; Collector Emitter Breakdown Voltage: 25V; Transition Frequency: 100MHz; Element Configuration: Single; Supplier 1: Digi-Key; Stock 1: 37298; Pricing 1: 1 = 0,21000, 10 = 0,19000, 25 = 0,17280, 100 = 0,12460, 250 = 0,07336, 500 = 0,06090, 1000 = 0,04152 (USD); Mount: Surface Mount; Case/Package: SOT-23; Number of Pins: 3; Min Operating Temperature: -55°C; Max Operating Temperature: 150°C; Packaging: Tape and Reel; Package Quantity: 3000; Polarity: NPN; Collector Emitter Saturation Voltage: 500mV; Max Breakdown Voltage: 25V; Gain Bandwidth Product: 100MHz; Lead Free: Lead Free; ComponentLink1URL: https://datasheet.ciiva.com/16291/mmss8050-255048-16291447.pdf?src-supplier=Mouser; ComponentLink1Description: https://datasheet.ciiva.com/16291/mmss8050-255048-16291447.pdf?src-supplier=Mouser; ComponentLink2URL: https://datasheet.ciiva.com/972/mmss8050sot-23-972893.pdf?src-supplier=Digi-Key; ComponentLink2Description: https://datasheet.ciiva.com/972/mmss8050sot-23-972893.pdf?src-supplier=Digi-Key; ComponentLink3URL: https://datasheet.ciiva.com/972/mmss8050sot-23-972894.pdf?src-supplier=Digi-Key; ComponentLink3Description: https://datasheet.ciiva.com/972/mmss8050sot-23-972894.pdf?src-supplier=Digi-Key; ComponentLink4URL: https://datasheet.ciiva.com/972/mmss8050sot-23-972895.pdf?src-supplier=Digi-Key; ComponentLink4Description: https://datasheet.ciiva.com/972/mmss8050sot-23-972895.pdf?src-supplier=Digi-Key; ComponentLink5URL: http://datasheet.octopart.com/MMSS8050-H-TP-MCC-datasheet-27626576.pdf?src-supplier=Future+Electronics; ComponentLink5Description: http://datasheet.octopart.com/MMSS8050-H-TP-MCC-datasheet-27626576.pdf?src-supplier=Future+Electronics; Supplier Part Number 1: MMSS8050-H-TPMSCT-ND
pins: 1 C, 2 B, 3 E

## NCP1117ST33T3G
designator U?
IC REG LINEAR 3.3V 1A SOT223; Manufacturer: ON Semiconductor; Manufacturer Part Number: NCP1117ST33T3G; Max Input Voltage: 20V; Number of Outputs: 1; Dropout Voltage: 1.07V; Max Supply Voltage: 15V; Min Supply Voltage: 4.75V; Min Input Voltage: 3.5V; Input Bias Current: 6mA; Quiescent Current: 10mA; Polarity: Positive; Reference Voltage: 1.25V; Accuracy: 1%; Output Type: Fixed; Supplier 1: Digi-Key; RoHS: Yes; Stock 1: 114545; Pricing 1: 1 = 0,52000, 10 = 0,44400, 100 = 0,33150, 500 = 0,26048, 1000 = 0,20129 (USD); Mount: Surface Mount; Case/Package: SOT-223; Number of Pins: 3; Contact Plating: Tin; Min Operating Temperature: 0°C; Max Operating Temperature: 125°C; Output Voltage: 3.3V; Packaging: Tape and Reel; Output Current: 1A; Max Output Current: 1A; Package Quantity: 1; Nominal Output Voltage: 3.3V; Number of Regulators: 1; Min Current Limit: 1A; Min Output Voltage: 3.3V; Max Output Voltage: 3.3V; Termination: SMD/SMT; Output Voltage Accuracy: 1%; Length: 6.7mm; Height: 1.69mm; Width: 3.7mm; Radiation Hardening: No; REACH SVHC: No SVHC; Lead Free: Lead Free; Halogen Free: Halogen Free; ComponentLink1URL: https://datasheet.ciiva.com/3224/ncp1117-d-3224144.pdf?src-supplier=Avnet; ComponentLink1Description: https://datasheet.ciiva.com/3224/ncp1117-d-3224144.pdf?src-supplier=Avnet; ComponentLink2URL: https://datasheet.ciiva.com/22697/1726422-22697602.pdf?src-supplier=Element14; ComponentLink2Description: https://datasheet.ciiva.com/22697/1726422-22697602.pdf?src-supplier=Element14; ComponentLink3URL: https://datasheet.ciiva.com/15111/getdatasheetpartid-82718-15111483.pdf?src-supplier=Verical; ComponentLink3Description: https://datasheet.ciiva.com/15111/getdatasheetpartid-82718-15111483.pdf?src-supplier=Verical; ComponentLink4URL: https://datasheet.ciiva.com/28483/1748260-28483307.pdf?src-supplier=Element14; ComponentLink4Description: https://datasheet.ciiva.com/28483/1748260-28483307.pdf?src-supplier=Element14; ComponentLink5URL: https://datasheet.ciiva.com/2042/ncp1117-d-2042028.pdf?src-supplier=Digi-Key; ComponentLink5Description: https://datasheet.ciiva.com/2042/ncp1117-d-2042028.pdf?src-supplier=Digi-Key; ComponentLink6URL: https://datasheet.ciiva.com/8233/ncp1117-d-8233589.pdf?src-supplier=Avnet; ComponentLink6Description: https://datasheet.ciiva.com/8233/ncp1117-d-8233589.pdf?src-supplier=Avnet; ComponentLink7URL: https://datasheet.ciiva.com/8073/1726422-8073735.pdf?src-supplier=Element14; ComponentLink7Description: https://datasheet.ciiva.com/8073/1726422-8073735.pdf?src-supplier=Element14; ComponentLink8URL: https://datasheet.ciiva.com/2042/ncp1117-d-2042027.pdf?src-supplier=Digi-Key; ComponentLink8Description: https://datasheet.ciiva.com/2042/ncp1117-d-2042027.pdf?src-supplier=Digi-Key; ComponentLink9URL: https://datasheet.ciiva.com/16382/ncp1117-d-16382636.pdf?src-supplier=Future+Electronics; ComponentLink9Description: https://datasheet.ciiva.com/16382/ncp1117-d-16382636.pdf?src-supplier=Future+Electronics; ComponentLink10URL: https://datasheet.ciiva.com/2042/ncp1117-d-2042029.pdf?src-supplier=Digi-Key; ComponentLink10Description: https://datasheet.ciiva.com/2042/ncp1117-d-2042029.pdf?src-supplier=Digi-Key; Supplier Part Number 1: NCP1117ST33T3GOSCT-ND
pins: 1 GND, 2 OUT, 3 IN

## RC2012F102CS
designator R?, comment 1k
Res Thick Film 0805 1K Ohm 1% 1/8W ±100ppm/°C Molded SMD SMD T/R; Manufacturer: Samsung; Manufacturer Part Number: RC2012F102CS; Resistance: 1kR; Max Power Dissipation: 125mW; Voltage Rating (DC): 150V; Supplier 1: Digi-Key; Stock 1: 37707; Pricing 1: 1 = 0,10000, 10 = 0,05600, 100 = 0,02290, 1000 = 0,01030, 2500 = 0,00894 (USD); Case/Package: 0805; Case Code (Metric): 2012; Case Code (Imperial): 0805; Contact Plating: Tin; Min Operating Temperature: -55°C; Max Operating Temperature: 155°C; Tolerance: 1%; Packaging: Tape and Reel; Composition: Thick Film; Number of Terminations: 2; Military Standard: Not; Temperature Coefficient: 100ppm/°C; Features: Moisture Resistant; Length: 0.079inch; Height: 0.024inch; Width: 0.049inch; Depth: 1.25mm; Radiation Hardening: No; Lead Free: Lead Free; ComponentLink1URL: https://datasheet.ciiva.com/26151/chip-resistor-150112-1-26151882.pdf?src-supplier=Digi-Key; ComponentLink1Description: https://datasheet.ciiva.com/26151/chip-resistor-150112-1-26151882.pdf?src-supplier=Digi-Key; ComponentLink2URL: https://datasheet.ciiva.com/26151/chip-resistor-150112-1-26151870.pdf?src-supplier=Digi-Key; ComponentLink2Description: https://datasheet.ciiva.com/26151/chip-resistor-150112-1-26151870.pdf?src-supplier=Digi-Key; ComponentLink3URL: http://datasheet.octopart.com/RC2012F102CS-Samsung-datasheet-41960856.pdf; ComponentLink3Description: http://datasheet.octopart.com/RC2012F102CS-Samsung-datasheet-41960856.pdf; Supplier Part Number 1: 1276-5272-1-ND
pins: 1, 2

## RC2012F103CS
designator R?, comment 10k
Res Thick Film 0805 10K Ohm 1% 0.125W(1/8W) ±100ppm/C Molded SMD T/R; Manufacturer: Samsung; Manufacturer Part Number: RC2012F103CS; Resistance: 10kR; Power Rating: 125mW; Temperature Coefficient: 100ppm/°C; Supplier 1: Digi-Key; Stock 1: 565008; RoHS: Yes; Case/Package: 0805; Case Code (Metric): 2012; Case Code (Imperial): 0805; Contact Plating: Tin; Min Operating Temperature: -55°C; Max Operating Temperature: 155°C; Tolerance: 1%; Packaging: Tape and Reel; Composition: Thick Film; Package Quantity: 1; Number of Terminations: 2; Military Standard: Not; Max Power Dissipation: 125mW; Features: Moisture Resistant; Length: 0.079inch; Height: 0.024inch; Width: 0.049inch; Depth: 1.25mm; Radiation Hardening: No; ComponentLink1URL: http://components.arrow.com/part/dataview/0323_04212069?src-supplier=Arrow+Europe; ComponentLink1Description: http://components.arrow.com/part/dataview/0323_04212069?src-supplier=Arrow+Europe; ComponentLink2URL: http://www1.futureelectronics.com/doc/SAMSUNG/RCSERIES.pdf?src-supplier=Future+Electronics; ComponentLink2Description: http://www1.futureelectronics.com/doc/SAMSUNG/RCSERIES.pdf?src-supplier=Future+Electronics; ComponentLink3URL: https://sem.samsung.co.kr/servlet/DownloadServlet?dir=product/en/A070002&num=&fileName=Resistor-Precision1.pdf&src-supplier=Avnet; ComponentLink3Description: https://sem.samsung.co.kr/servlet/DownloadServlet?dir=product/en/A070002&num=&fileName=Resistor-Precision1.pdf&src-supplier=Avnet; ComponentLink4URL: http://www.samsungsem.com/kr/support/product-search/chip-resistor/RC2012F103CS.jsp?src-supplier=Digi-Key; ComponentLink4Description: http://www.samsungsem.com/kr/support/product-search/chip-resistor/RC2012F103CS.jsp?src-supplier=Digi-Key; ComponentLink5URL: https://sem.samsung.co.kr/servlet/DownloadServlet?dir=product/en/A070002&num=&fileName=Resistor-Precision1.pdf&src-supplier=Avnet+Europe; ComponentLink5Description: https://sem.samsung.co.kr/servlet/DownloadServlet?dir=product/en/A070002&num=&fileName=Resistor-Precision1.pdf&src-supplier=Avnet+Europe; ComponentLink6URL: http://components.arrow.com/part/dataview/51841145S9370186N4139?src-supplier=Arrow; ComponentLink6Description: http://components.arrow.com/part/dataview/51841145S9370186N4139?src-supplier=Arrow; Supplier Part Number 1: 1276-5332-1-ND
pins: 1, 2

## RC2012F104CS
designator R?, comment 100K (1%)
Res Thick Film 0805 100K Ohm 1% 0.125W(1/8W) ±100ppm/C Pad SMD T/R; Manufacturer: Samsung; Manufacturer Part Number: RC2012F104CS; Resistance: 100kR; Max Power Dissipation: 125mW; Temperature Coefficient: 100ppm/°C; Voltage Rating (DC): 150V; Supplier 1: Digi-Key; Stock 1: 71115; Pricing 1: 1 = 0,10000, 10 = 0,05600, 100 = 0,02290, 1000 = 0,01030, 2500 = 0,00894 (USD); Case/Package: 0805; Case Code (Metric): 2012; Case Code (Imperial): 0805; Contact Plating: Tin; Min Operating Temperature: -55°C; Max Operating Temperature: 155°C; Packaging: Tape and Reel; Tolerance: 1%; Composition: Thick Film; Number of Terminations: 2; Military Standard: Not; Features: Moisture Resistant; Length: 0.079inch; Height: 0.024inch; Width: 0.049inch; Depth: 1.25mm; Radiation Hardening: No; Lead Free: Lead Free; ComponentLink1URL: https://datasheet.ciiva.com/26154/chip-resistor-150112-1-26154663.pdf?src-supplier=Digi-Key; ComponentLink1Description: https://datasheet.ciiva.com/26154/chip-resistor-150112-1-26154663.pdf?src-supplier=Digi-Key; ComponentLink2URL: https://datasheet.ciiva.com/26154/chip-resistor-150112-1-26154635.pdf?src-supplier=Digi-Key; ComponentLink2Description: https://datasheet.ciiva.com/26154/chip-resistor-150112-1-26154635.pdf?src-supplier=Digi-Key; ComponentLink3URL: https://datasheet.ciiva.com/26154/chip-resistor-150112-1-26154649.pdf?src-supplier=Digi-Key; ComponentLink3Description: https://datasheet.ciiva.com/26154/chip-resistor-150112-1-26154649.pdf?src-supplier=Digi-Key; ComponentLink4URL: http://datasheet.octopart.com/RC2012F104CS-Samsung-Electro-Mechanics-datasheet-128083940.pdf?src-supplier=Future+Electronics; ComponentLink4Description: http://datasheet.octopart.com/RC2012F104CS-Samsung-Electro-Mechanics-datasheet-128083940.pdf?src-supplier=Future+Electronics; ComponentLink5URL: http://datasheet.octopart.com/RC2012F104CS-Samsung-Electro-Mechanics-datasheet-41960856.pdf; ComponentLink5Description: http://datasheet.octopart.com/RC2012F104CS-Samsung-Electro-Mechanics-datasheet-41960856.pdf; ComponentLink6URL: http://datasheet.octopart.com/RC2012F104CS-Samsung-datasheet-22122684.pdf?src-supplier=Future+Electronics; ComponentLink6Description: http://datasheet.octopart.com/RC2012F104CS-Samsung-datasheet-22122684.pdf?src-supplier=Future+Electronics; Supplier Part Number 1: 1276-3512-1-ND
pins: 1, 2

## RC2012F122CS
designator R?, comment 1.2k
Res Thick Film 0805 1.2K Ohm 1% 0.125W(1/8W) ±100ppm/C Molded SMD T/R; Manufacturer: Samsung; Manufacturer Part Number: RC2012F122CS; Resistance: 1.2kR; Max Power Dissipation: 125mW; Temperature Coefficient: 100ppm/°C; Voltage Rating (DC): 150V; Supplier 1: Digi-Key; RoHS: Yes; Stock 1: 240875; Pricing 1: 1 = 0,10000, 10 = 0,05600, 100 = 0,02290, 1000 = 0,01030, 2500 = 0,00894 (USD); Case/Package: 0805; Case Code (Metric): 2012; Case Code (Imperial): 0805; Contact Plating: Tin; Min Operating Temperature: -55°C; Max Operating Temperature: 155°C; Tolerance: 1%; Packaging: Tape and Reel; Composition: Thick Film; Number of Terminations: 2; Features: Moisture Resistant; Length: 0.079inch; Height: 0.024inch; Width: 0.049inch; Radiation Hardening: No; Lead Free: Lead Free; ComponentLink1URL: https://datasheet.ciiva.com/26151/chip-resistor-150112-1-26151990.pdf?src-supplier=Digi-Key; ComponentLink1Description: https://datasheet.ciiva.com/26151/chip-resistor-150112-1-26151990.pdf?src-supplier=Digi-Key; ComponentLink2URL: https://datasheet.ciiva.com/26152/chip-resistor-150112-1-26152007.pdf?src-supplier=Digi-Key; ComponentLink2Description: https://datasheet.ciiva.com/26152/chip-resistor-150112-1-26152007.pdf?src-supplier=Digi-Key; ComponentLink3URL: https://datasheet.ciiva.com/26151/chip-resistor-150112-1-26151979.pdf?src-supplier=Digi-Key; ComponentLink3Description: https://datasheet.ciiva.com/26151/chip-resistor-150112-1-26151979.pdf?src-supplier=Digi-Key; Supplier Part Number 1: 1276-5275-1-ND
pins: 1, 2